# Altium schematic symbol library WeActHut.SchLib: 2 symbols
Pins are listed as number, name and electrical type; pins without a type are passive.

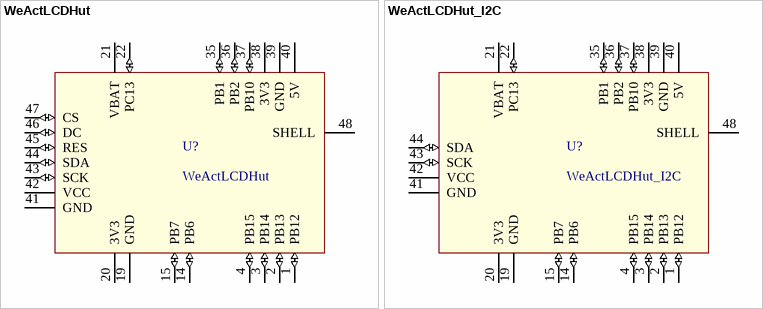
[diagram p0: symbols WeActLCDHut to WeActLCDHut_I2C]

## WeActLCDHut
designator U?
footprint WeActBlackPillLCDHat
pins: 1 PB12 (io), 2 PB13 (io), 3 PB14 (io), 4 PB15 (io), 14 PB6 (io), 15 PB7 (io), 19 GND (power), 20 3V3 (power), 21 VBAT (power), 22 PC13 (io), 35 PB1 (io), 36 PB2 (io), 37 PB10 (io), 38 3V3 (power), 39 GND (power), 40 5V (power), 41 GND (power), 42 VCC (power), 43 SCK (io), 44 SDA (io), 45 RES (io), 46 DC (io), 47 CS (io), 48 SHELL (power)

## WeActLCDHut_I2C
designator U?
footprint WeActBlackPillLCDHat_I2C
pins: 1 PB12 (io), 2 PB13 (io), 3 PB14 (io), 4 PB15 (io), 14 PB6 (io), 15 PB7 (io), 19 GND (power), 20 3V3 (power), 21 VBAT (power), 22 PC13 (io), 35 PB1 (io), 36 PB2 (io), 37 PB10 (io), 38 3V3 (power), 39 GND (power), 40 5V (power), 41 GND (power), 42 VCC (power), 43 SCK (io), 44 SDA (io), 48 SHELL (power)